# EAGLE library part UX60 (library other)
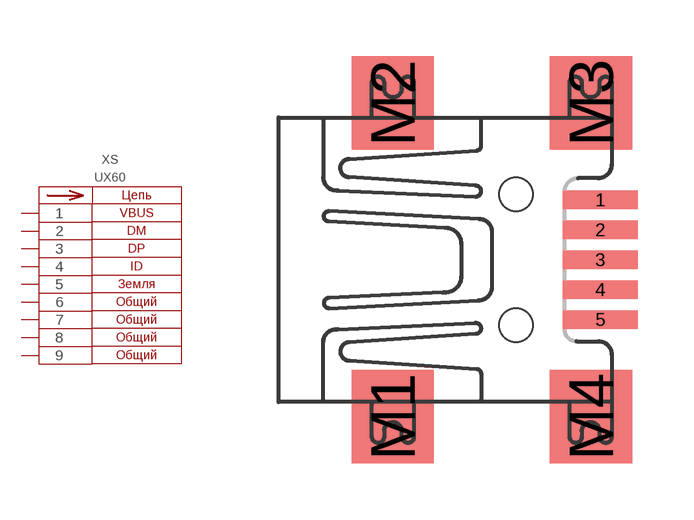
[diagram p8: symbol with the pads of UX60-MB-5ST; footprint UX60-MB-5ST]

Designator prefix XS

## UX60-MB-5ST  [UX60-MB-5ST]
1  1  pas
2  2  pas
3  3  pas
4  4  pas
5  5  pas
M1  6  pas
M2  7  pas
M3  8  pas
M4  9  pas

## Footprint UX60-MB-5ST (pad centres in mm)
MINI USB Connector HI-SPEED Certified Metal Shield SMT Type With Positioning Post Source: http://www.hirose.co.jp/cataloge_hp/e24000019.pdf
smd 2 x 0.5: 1 2.25,1.6; 2 2.25,0.8; 3 2.25,0; 4 2.25,-0.8; 5 2.25,-1.6
smd 2.2 x 2.5: M1 -3.3,-4.2; M2 -3.3,4.2; M3 2,4.2; M4 2,-4.2
hole 0.9 at 0,-1.75
hole 0.9 at 0,1.75